# Altium footprint library Connector_THT.PcbLib: 34 footprints (part 2 of 3)
Each footprint in its own frame and in the unit in brackets; x right, y up, seen from the top. Pads: shape width x height; smd on the part's side, far side on the other; paste and mask are expansions set on the pad; w line width, h text height; cw(c..) or ccw(c..) is an arc to the next point about the centre after c.
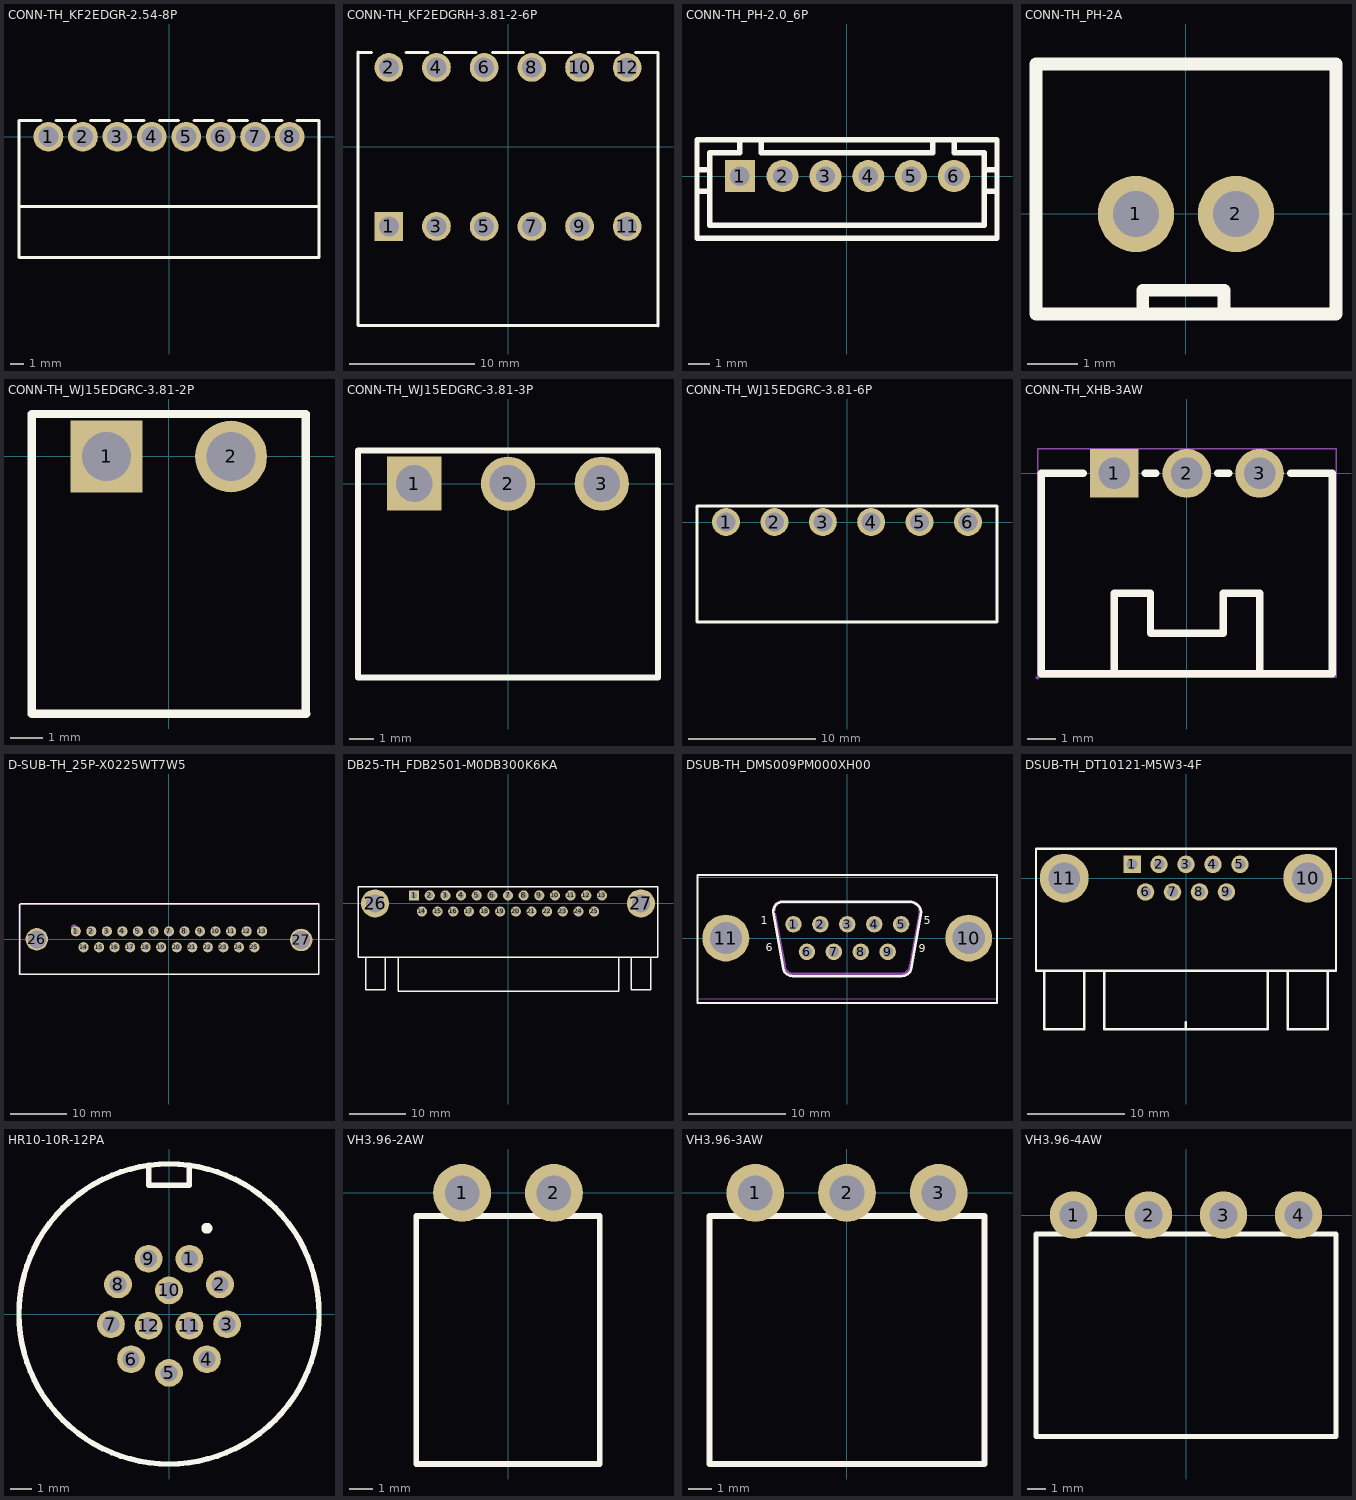
[diagram p1: the footprints below, top view; thin cyan lines are the x and y axes]

## CONN-TH_KF2EDGR-2.54-8P [mm]
pads (8):
  round 2.2 hole 1.5: 1(-8.89,0) 2(-6.35,0) 3(-3.81,0) 4(-1.27,0) 5(1.27,0) 6(3.81,0) 7(6.35,0) 8(8.89,0)
Top Overlay:
  lines w0.254: -11.06,-5.117 11.06,-5.15 ; -9.465,1.199 -11.059,1.199 -11.059,-2.616 -11.059,-8.9 11.06,-8.9 11.06,1.2 ; -8.315,1.199 -6.925,1.199 ; -5.775,1.199 -4.385,1.199 ; -3.235,1.199 -1.845,1.199 ; -0.695,1.199 0.695,1.199 ; 1.845,1.199 3.235,1.199 ; 4.385,1.199 5.775,1.199 ; 6.925,1.199 8.315,1.199 ; 9.465,1.199 11.06,1.199
3D body "CN1.stp": height 8, standoff -3.5, extent -11.109,-8.948 11.109,1.151

## CONN-TH_KF2EDGRH-3.81-2-6P [mm]
pads (12):
  rect 2.3x2.3 hole 1.6: 1(-9.525,-6.35)
  round 2.3 hole 1.6: 2(-9.525,6.35) 3(-5.715,-6.35) 4(-5.715,6.35) 5(-1.905,-6.35) 6(-1.905,6.35) 7(1.905,-6.35) 8(1.905,6.35) 9(5.715,-6.35) 10(5.715,6.35) 11(9.525,-6.35) 12(9.525,6.35)
Top Overlay:
  lines w0.254: -11.985,7.558 -10.899,7.558 ; -11.985,7.57 -11.985,-14.28 11.985,-14.28 ; -8.151,7.558 -6.381,7.558 ; -5.049,7.558 -2.571,7.558 ; -1.239,7.558 1.239,7.558 ; 2.571,7.558 5.049,7.558 ; 6.381,7.558 8.859,7.558 ; 10.191,7.558 11.985,7.558 11.985,-14.291

## CONN-TH_PH-2.0_6P [mm]
pads (6):
  rect 1.4x1.5 hole 0.9: 1(-5,0)
  round 1.5 hole 0.9: 2(-3,0) 3(-1,0) 4(1,0) 5(3,0) 6(5,0)
Top Overlay:
  lines w0.25: -6.998,-0.7 -6.398,-0.7 ; -6.998,0.3 -6.398,0.3 ; -4.998,1.7 -4.998,1.099 -6.398,1.099 -6.398,-2.3 6.398,-2.3 ; -3.998,1.7 -3.998,1.099 3.998,1.099 ; 4.01,1.1 4.01,1.7 ; 5.01,1.7 5.01,1.1 6.41,1.1 6.41,-2.3 ; 6.41,-0.7 7.01,-0.7 ; 6.41,0.3 7.01,0.3 ; 6.998,-2.901 -6.998,-2.901 -6.998,1.7 6.998,1.7 ; 7.01,-2.9 7.01,1.7

## CONN-TH_PH-2A [mil]
pads (2):
  round 60 hole 36: 1(-39.37,0) 2(39.37,0)
Top Overlay:
  lines w10: -34.06,-78.74 -34.06,-60 30,-60 30,-78.74 ; -118.09,-78.74 118.13,-78.74 118.13,118.11 -118.09,118.11 -118.09,-78.74
3D body "ph2.0-2p.stp": height 236.22, standoff -133.86, extent -118.11,-79.52 118.11,117.33

## CONN-TH_WJ15EDGRC-3.81-2P [mm]
pads (2):
  rect 2.2x2.2 hole 1.5: 1(-1.905,0)
  round 2.2 hole 1.5: 2(1.905,0)
Top Overlay:
  lines w0.254: -4.191,-7.88 -4.191,1.3 4.191,1.3 4.191,-7.874 ; -4.191,-7.874 4.205,-7.874

## CONN-TH_WJ15EDGRC-3.81-3P [mm]
pads (3):
  rect 2.2x2.2 hole 1.5: 1(-3.81,0)
  round 2.2 hole 1.5: 2(0,0) 3(3.81,0)
Top Overlay:
  lines w0.254: -6.096,-7.88 -6.096,1.27 ; -6.096,-7.874 6.096,-7.874 6.096,1.27 ; -6.096,1.35 6.096,1.35

## CONN-TH_WJ15EDGRC-3.81-6P [mm]
pads (6):
  round 2.2 hole 1.5: 1(-9.525,0) 2(-5.715,0) 3(-1.905,0) 4(1.905,0) 5(5.715,0) 6(9.525,0)
Top Overlay:
  lines w0.254: -11.811,-7.88 -11.811,1.27 11.811,1.27 11.811,-7.874 3.937,-7.874 -11.811,-7.874

## CONN-TH_XHB-3AW [mm]
pads (3):
  rect 1.699x1.699 hole 1.1 mask+0.051: 1(-2.54,0)
  round 1.699 hole 1.1 mask+0.051: 2(0,0) 3(2.54,0)
Top Overlay:
  lines w0.254: -3.622,0 -5.08,0 -5.08,-7 5.08,-7 5.08,0 3.622,0 ; -2.54,-6.985 -2.54,-4.191 -1.27,-4.191 -1.27,-5.588 1.27,-5.588 1.27,-4.191 2.54,-4.191 2.54,-6.985 ; -1.458,0 -1.082,0 ; 1.082,0 1.458,0
Mechanical 15:
  region: -5.146,-7.127 -5.146,-7.102 -5.182,-7.066 -5.232,-7.066 -5.268,-7.102 -5.268,-7.127 -5.268,-7.152 -5.232,-7.188 -5.182,-7.188 -5.146,-7.152 -5.146,-7.127
  region: 2.99,0 2.99,0.089 2.921,0.255 2.795,0.381 2.629,0.45 2.451,0.45 2.285,0.381 2.159,0.255 2.09,0.089 2.09,0 2.09,-0.089 2.159,-0.255 2.285,-0.381 2.451,-0.45 2.629,-0.45 2.795,-0.381 2.921,-0.255 2.99,-0.089 2.99,0
  region: 0.45,0 0.45,0.089 0.381,0.255 0.255,0.381 0.089,0.45 -0.089,0.45 -0.255,0.381 -0.381,0.255 -0.45,0.089 -0.45,0 -0.45,-0.089 -0.381,-0.255 -0.255,-0.381 -0.089,-0.45 0.089,-0.45 0.255,-0.381 0.381,-0.255 0.45,-0.089 0.45,0
  region: -2.09,0 -2.09,0.089 -2.159,0.255 -2.285,0.381 -2.451,0.45 -2.629,0.45 -2.795,0.381 -2.921,0.255 -2.99,0.089 -2.99,0 -2.99,-0.089 -2.921,-0.255 -2.795,-0.381 -2.629,-0.45 -2.451,-0.45 -2.285,-0.381 -2.159,-0.255 -2.09,-0.089 -2.09,0
  lines w0.051: -5.207,-7.127 -5.207,0.851 5.207,0.851 5.207,-7.127 -5.207,-7.127
3D body "3D_PCB1_2022-04-15.stp": height 6.55, standoff -3.3, extent -5,-7.209 5,0.311

## D-SUB-TH_25P-X0225WT7W5 [mm]
pads (27):
  round 1.8 hole 1 copper offset 0,0 paste+0 mask+0.05: 1(-16.56,1.42) 2(-13.8,1.42) 3(-11.04,1.42) 4(-8.28,1.42) 5(-5.52,1.42) 6(-2.761,1.42) 7(0,1.42) 8(2.76,1.42) 9(5.52,1.42) 10(8.28,1.42) 11(11.039,1.42) 12(13.8,1.42) 13(16.56,1.42) 14(-15.181,-1.42) 15(-12.42,-1.42) 16(-9.66,-1.42) 17(-6.9,-1.42) 18(-4.141,-1.42) 19(-1.38,-1.42) 20(1.39,-1.42) 21(4.15,-1.42) 22(6.91,-1.42) 23(9.67,-1.42) 24(12.43,-1.42) 25(15.19,-1.42)
  round 4 hole 3.2 paste+0 mask+0.05: 26(-23.5,0) 27(23.5,-0.127)
Top Overlay:
  lines w0.254: -26.543,6.223 -26.543,-6.223 26.67,-6.223 26.67,6.35 -26.416,6.35
Mechanical 6:
  circle w0.5: c-16.891,2.159 r0.25
Mechanical 15:
  drawing of 32 lines, arcs and shapes, not listed
3D body "U1.stp": height 12.8, standoff -4.4, extent -26.55,-6.275 26.55,6.275

## DB25-TH_FDB2501-M0DB300K6KA [mm]
pads (27):
  rect 1.8x1.8 hole 1.1: 1(-16.62,1.42)
  round 1.8 hole 1.1: 2(-13.85,1.42) 3(-11.08,1.42) 4(-8.31,1.42) 5(-5.54,1.42) 6(-2.77,1.42) 7(0,1.42) 8(2.77,1.42) 9(5.54,1.42) 10(8.31,1.42) 11(11.08,1.42) 12(13.85,1.42) 13(16.62,1.42) 14(-15.235,-1.42) 15(-12.465,-1.42) 16(-9.695,-1.42) 17(-6.925,-1.42) 18(-4.155,-1.42) 19(-1.385,-1.42) 20(1.385,-1.42) 21(4.155,-1.42) 22(6.925,-1.42) 23(9.695,-1.42) 24(12.465,-1.42) 25(15.235,-1.42)
  round 5 hole 3.2: 26(-23.52,0) 27(23.52,0)
Top Overlay:
  lines w0.254: -25.146,-9.525 -25.146,-15.24 -21.717,-15.24 -21.717,-9.525 ; -19.431,-9.652 -19.431,-15.494 19.558,-15.494 19.558,-9.525 ; 21.844,-9.525 21.844,-15.24 25.273,-15.24 25.273,-9.525 ; 26.543,0 26.543,2.921 ; 26.543,2.921 -26.543,2.921 -26.543,-9.525 26.543,-9.525 26.543,2.921
3D body "d25p13a4gx00lf.stp": height 13.55, standoff -3.1, extent -26.52,-17.45 26.52,3

## DSUB-TH_DMS009PM000XH00 [mm]
pads (11):
  round 1.69 hole 1.09: 1(-5.54,1.42) 2(-2.77,1.42) 3(0,1.42) 4(2.77,1.42) 5(5.54,1.42) 6(-4.155,-1.42) 7(-1.385,-1.42) 8(1.385,-1.42) 9(4.155,-1.42)
  round 4.826 hole 3.302: 10(12.495,0) 11(-12.495,0)
Top Overlay:
  lines w0.2: -15.4,-6.703 -15.4,6.505 15.4,6.505 15.4,2.9 15.4,-6.703 -15.4,-6.703
  lines w0.254: -7.622,2.695 cw(c-6.603,2.724) -6.86,3.711 6.602,3.711 cw(c6.365,2.459) 7.618,2.695 6.602,-3.147 cw(c5.615,-2.889) 5.586,-3.909 -5.59,-3.909 cw(c-5.62,-2.889) -6.606,-3.147 -7.623,2.695
  text "1" at -8.892,1.418 h0.83
  text "6" at -8.384,-1.375 h0.83
  text "9" at 7.364,-1.445 h0.83
  text "5" at 7.872,1.418 h0.83
Mechanical 6:
  region: -6.858,3.81 6.604,3.81 6.704,3.81 6.9,3.771 7.085,3.694 7.252,3.583 7.393,3.442 7.504,3.275 7.581,3.09 7.62,2.894 7.62,2.794 6.604,-3.048 6.604,-3.123 6.575,-3.27 6.517,-3.409 6.434,-3.534 6.328,-3.64 6.203,-3.723 6.064,-3.781 5.917,-3.81 5.842,-3.81 -5.588,-3.81 -5.688,-3.81 -5.884,-3.771 -6.069,-3.694 -6.236,-3.583 -6.377,-3.442 -6.488,-3.275 -6.565,-3.09 -6.604,-2.894 -6.604,-2.794 -7.62,2.54 -7.366,2.54 -6.35,-2.794 -6.346,-2.869 -6.317,-3.015 -6.26,-3.153 -6.177,-3.277 -6.071,-3.383 -5.947,-3.466 -5.809,-3.523 -5.663,-3.552 -5.588,-3.556 -5.334,-3.556 5.334,-3.556 5.588,-3.556 5.663,-3.552 5.809,-3.523 5.947,-3.466 6.071,-3.383 6.177,-3.277 6.26,-3.153 6.317,-3.015 6.346,-2.869 6.35,-2.794 7.366,2.54 7.366,2.794 7.362,2.869 7.333,3.015 7.276,3.153 7.193,3.277 7.087,3.383 6.963,3.466 6.825,3.523 6.679,3.552 6.604,3.556 -6.858,3.556 -6.957,3.546 -7.14,3.47 -7.28,3.33 -7.356,3.147 -7.366,3.048 -7.366,2.794 -7.62,2.794 -7.62,3.048 -7.62,3.123 -7.591,3.27 -7.533,3.409 -7.45,3.534 -7.344,3.64 -7.219,3.723 -7.08,3.781 -6.933,3.81 -6.858,3.81
Mechanical 15:
  drawing of 16 lines, arcs and shapes, not listed
3D body "DSUB1.stp": height 11.85, standoff -5, extent -15.405,-6.25 15.405,6.25

## DSUB-TH_DT10121-M5W3-4F [mm]
pads (11):
  rect 1.8x1.8 hole 1.1: 1(-5.54,1.42)
  round 1.8 hole 1.1: 2(-2.77,1.42) 3(0,1.42) 4(2.77,1.42) 5(5.54,1.42) 6(-4.155,-1.42) 7(-1.385,-1.42) 8(1.385,-1.42) 9(4.155,-1.42)
  round 5 hole 3.25: 10(12.5,0) 11(-12.5,0)
Top Overlay:
  lines w0.254: -14.57,-15.5 -14.57,-9.5 ; -14.54,-15.5 -10.43,-15.5 -10.43,-9.5 ; -8.38,-9.5 -8.38,-15.5 8.37,-15.5 8.37,-9.5 ; -0.005,-15.48 -0.005,-14.78 ; 10.43,-15.5 10.43,-9.5 ; 10.46,-15.499 14.57,-15.499 14.57,-9.5 ; -15.4,-9.5 15.4,-9.5 15.4,3 -15.4,3 -15.4,-9.5
3D body "COMPOUND_1.stp": height 12.58, standoff -3.7, extent -15.005,-15.495 15.005,3.095

## HR10-10R-12PA [mm]
pads (12):
  round 1.3 hole 0.8: 1(0.95,2.58) 2(2.38,1.38) 3(2.71,-0.48) 4(1.77,-2.11) 5(0,-2.75) 6(-1.77,-2.11) 7(-2.71,-0.48) 8(-2.38,1.38) 9(-0.95,2.58) 10(0,1.1) 11(0.95,-0.55) 12(-0.95,-0.55)
Top Overlay:
  circle w0.254: c1.77,4 r0.127
  circle w0.254: c0,0 r7
  lines w0.254: -0.95,6.935 -0.95,6 0.95,6 0.95,6.935
3D body "118.stp": height 12.7, standoff -2.8, extent -6.988,-7.506 6.988,7.506

## VH3.96-2AW [mm]
pads (2):
  round 2.5 hole 1.5: 1(-1.98,0) 2(1.98,0)
Top Overlay:
  lines w0.254: -3.96,-11.7 -3.96,-1 3.96,-1 3.96,-11.7 -3.96,-11.7

## VH3.96-3AW [mm]
pads (3):
  round 2.5 hole 1.5: 1(-3.96,0) 2(0,0) 3(3.96,0)
Top Overlay:
  lines w0.254: -5.94,-11.7 -5.94,-1 5.94,-1 5.94,-11.7 -5.94,-11.7

## VH3.96-4AW [mm]
pads (4):
  round 2.5 hole 1.5: 1(-5.94,0) 2(-1.98,0) 3(1.98,0) 4(5.94,0)
Top Overlay:
  lines w0.254: -7.92,-11.7 7.92,-11.7 7.92,-1 -7.92,-1 -7.92,-11.7
3D body "CN1.stp": height 8.2, standoff -3.5, extent -7.92,-11.486 7.92,0.584